# Altium schematic symbol library BU2032SM-BT-GTR.SchLib: 1 symbol
Pins are listed as number, name and electrical type; pins without a type are passive.

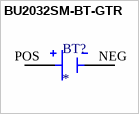
[diagram p0: symbol BU2032SM-BT-GTR]

## BU2032SM-BT-GTR
designator BT?
Battery Holder (Open) Coin, 20.0mm 1 Cell SMD (SMT) Tab; MF: Memory Protection Devices; MP: BU2032SM-BT-GTR; SnapEDA_Link: https://www.snapeda.com/parts/BU2032SM-BT-GTR/Memory+Protection+Devices/view-part/?ref=snap; Package: None; Value: *; Check_prices: https://www.snapeda.com/parts/BU2032SM-BT-GTR/Memory+Protection+Devices/view-part/?ref=eda
footprint BAT_BU2032SM-BT-GTR
pins: NEG, POS